# Altium footprint library BMS.PcbLib: 8 footprints
Each footprint in its own frame and in the unit in brackets; x right, y up, seen from the top. Pads: shape width x height; smd on the part's side, far side on the other; paste and mask are expansions set on the pad; w line width, h text height; cw(c..) or ccw(c..) is an arc to the next point about the centre after c.
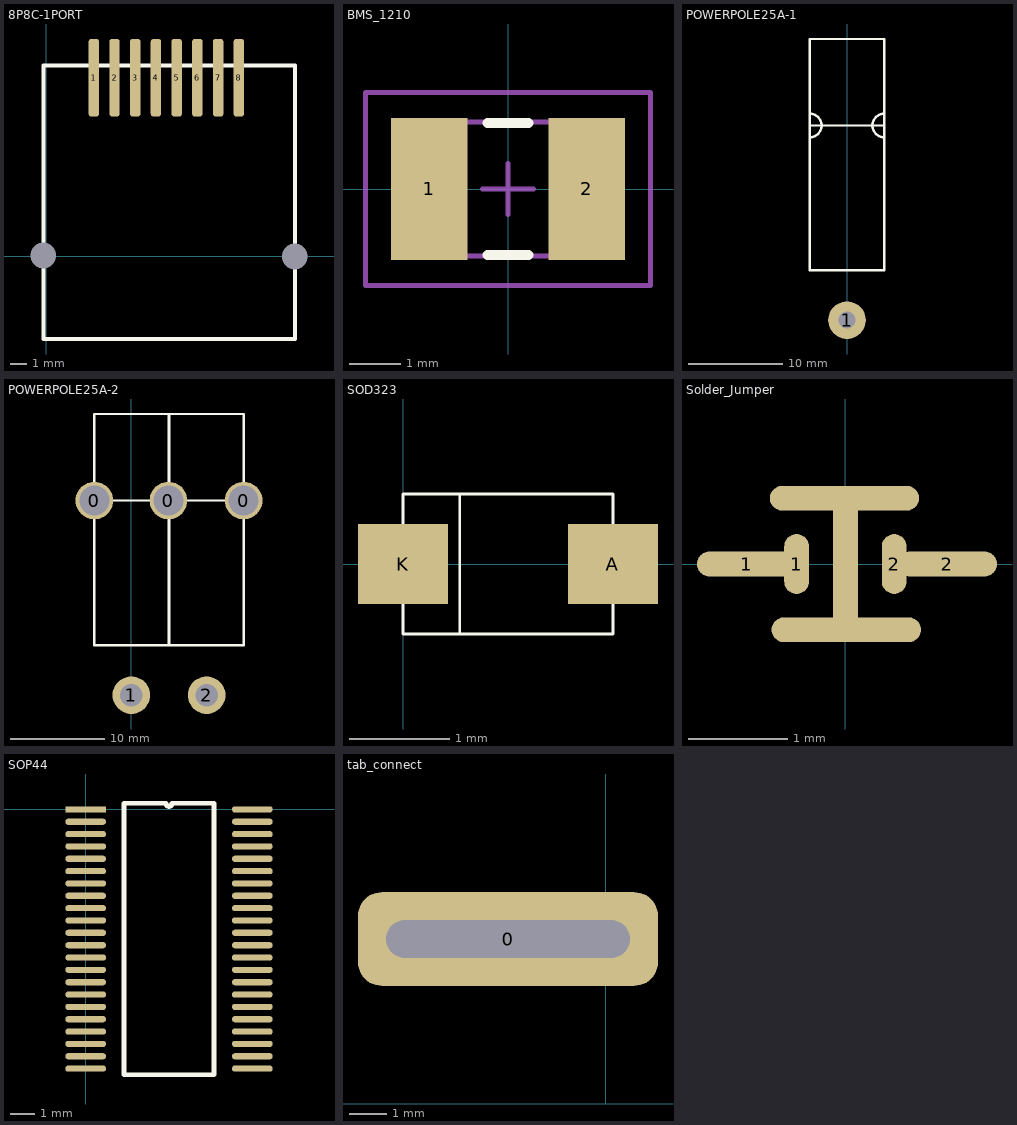
[diagram p0: the footprints below, top view; thin cyan lines are the x and y axes]

## 8P8C-1PORT [mm]
pads (10):
  rrect50% 0.64x4.75 smd: 1(2.92,10.96) 2(4.19,10.96) 3(5.46,10.96) 4(6.73,10.96) 5(8,10.96) 6(9.27,10.96) 7(10.54,10.96) 8(11.81,10.96)
  round 0 hole 1.57: ""(-0.19,0.06) ""(15.25,0)
Top Overlay:
  lines w0.254: 15.17,11.7 -0.17,11.7 -0.17,-5.06 15.2,-5.06 ; 15.25,-5.06 15.25,11.7

## BMS_1210 [mm] "Chip Resistor, Body 3.2x2.5mm, IPC Low Density"
height 0.71
pads (2):
  rect 1.5x2.8 smd: 1(-1.55,0) 2(1.55,0)
Top Overlay:
  lines w0.2: -0.4,-1.3 0.4,-1.3 ; -0.4,1.3 0.4,1.3
Mechanical 13:
  lines w0.1: -1.675,-1.32 1.675,-1.32 1.675,1.32 -1.675,1.32 -1.675,-1.32
Mechanical 15:
  lines w0.1: -0.5,0 0.5,0 ; 0,-0.5 0,0.5 ; -2.8,-1.9 2.8,-1.9 2.8,1.9 -2.8,1.9 -2.8,-1.9
3D body: height 0.71, standoff 0, extent -1.675,-1.32 1.675,1.32

## POWERPOLE25A-1 [mm]
height 10
pads (1):
  round 4 hole 1.8: 1(0,13.589)
Top Overlay:
  lines w0.254: -3.95,33.05 ccw(c-3.95,34.3) -3.95,35.55 ; -3.95,34.3 3.95,34.29 ; 3.95,33.05 cw(c3.95,34.3) 3.95,35.55 ; -3.95,18.9 -3.95,43.5 3.95,43.5 3.95,18.9 -3.95,18.9

## POWERPOLE25A-2 [mm]
height 10
pads (5):
  round 4 hole 3.2: 0(-3.937,34.29) 0(3.937,34.29) 0(11.938,34.29)
  round 4 hole 2.4: 1(0,13.589) 2(8.001,13.589)
Top Overlay:
  lines w0.254: -3.95,33.05 ccw(c-3.95,34.3) -3.95,35.55 ; -3.95,34.3 3.95,34.29 ; 3.95,33.05 cw(c3.95,34.3) 3.95,35.55 ; 4.051,33.05 ccw(c4.051,34.3) 4.051,35.55 ; 4.051,34.3 11.951,34.29 ; 11.951,33.05 cw(c11.951,34.3) 11.951,35.55 ; -3.95,18.9 3.95,18.9 3.95,43.5 -3.95,43.5 -3.95,18.9 ; 4.051,18.9 4.051,43.5 11.951,43.5 11.951,18.9 4.051,18.9

## SOD323 [mm]
pads (2):
  rect 0.9x0.8 smd: A(2.1,0) K(0,0)
Top Overlay:
  lines w0.025: 0.566,-0.7 0.566,0.7 ; 0,-0.7 0,0.7 2.1,0.7 2.1,-0.7 0,-0.7

## Solder_Jumper [mm]
pads (7):
  oval 1x0.25 smd: 1(-0.99,0) 2(1.022,0)
  oval 0.25x0.6 smd: 1(-0.49,0) 2(0.49,0)
  oval 1.5x0.25 smd: ""(-0.009,0.66) ""(0.009,-0.66)
  oval 0.25x1.5 smd: ""(0,0)

## SOP44 [mm]
pads (44):
  rect 1.653x0.25 smd: 1(0,0)
  oval 1.653x0.25 smd: 2(0,-0.5) 3(0,-1) 4(0,-1.5) 5(0,-2) 6(0,-2.5) 7(0,-3) 8(0,-3.5) 9(0,-4) 10(0,-4.5) 11(0,-5) 12(0,-5.5) 13(0,-6) 14(0,-6.5) 15(0,-7) 16(0,-7.5) 17(0,-8) 18(0,-8.5) 19(0,-9) 20(0,-9.5) 21(0,-10) 22(0,-10.5) 23(6.75,-10.5) 24(6.75,-10) 25(6.75,-9.5) 26(6.75,-9) 27(6.75,-8.5) 28(6.75,-8) 29(6.75,-7.5) 30(6.75,-7) 31(6.75,-6.5) 32(6.75,-6) 33(6.75,-5.5) 34(6.75,-5) 35(6.75,-4.5) 36(6.75,-4) 37(6.75,-3.5) 38(6.75,-3) 39(6.75,-2.5) 40(6.75,-2) 41(6.75,-1.5) 42(6.75,-1) 43(6.75,-0.5) 44(6.75,0)
Top Overlay:
  lines w0.2: 1.56,-10.75 5.19,-10.75 5.19,0.25 3.5,0.25 cw(c3.375,0.25) 3.25,0.25 1.56,0.25 1.56,-10.75

## tab_connect [mm]
pads (1):
  rrect50% 8x2.5 hole 1 slot 6.5 at 0 deg: 0(-2.6,4.4)